# EAGLE library part 349703A (library Doc-Test_Interface)
GP Relays
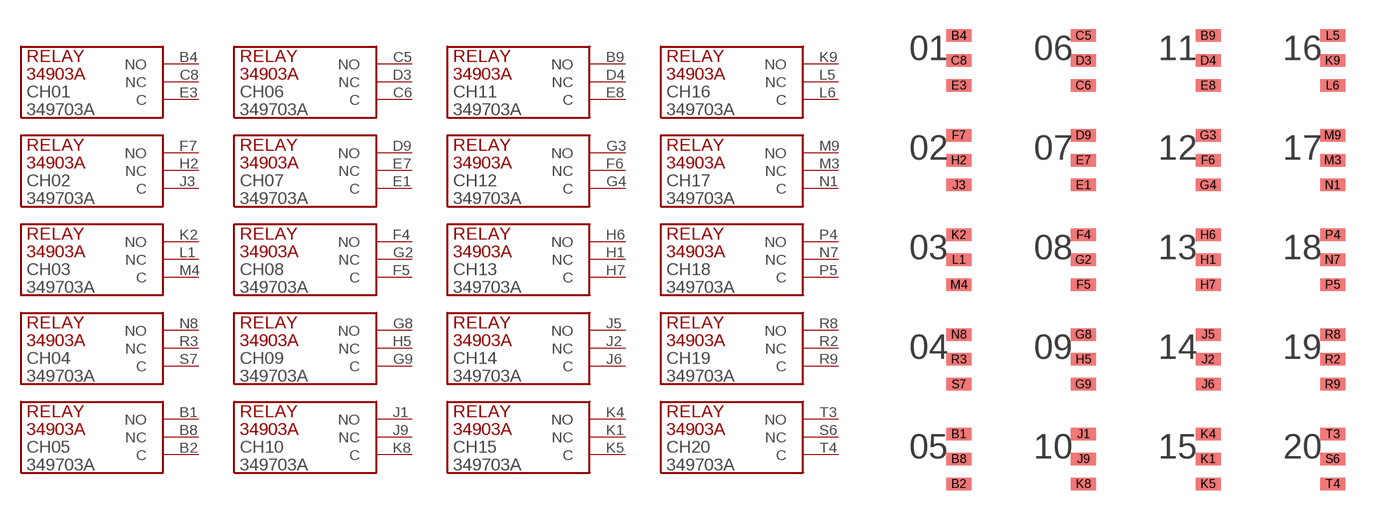
[diagram p1: symbol with the pads of RELAYPAC; footprint RELAYPAC]

Designator prefix CH; gates 01=RELAY 02=RELAY 03=RELAY 04=RELAY 05=RELAY 06=RELAY 07=RELAY 08=RELAY 09=RELAY 10=RELAY 11=RELAY 12=RELAY 13=RELAY 14=RELAY 15=RELAY 16=RELAY 17=RELAY 18=RELAY 19=RELAY 20=RELAY

## 349703A  [RELAYPAC]
B1  05:NO  in
B2  05:C  in
B4  01:NO  in
B8  05:NC  in
B9  11:NO  in
C5  06:NO  in
C6  06:C  in
C8  01:NC  in
D3  06:NC  in
D4  11:NC  in
D9  07:NO  in
E1  07:C  in
E3  01:C  in
E7  07:NC  in
E8  11:C  in
F4  08:NO  in
F5  08:C  in
F6  12:NC  in
F7  02:NO  in
G2  08:NC  in
G3  12:NO  in
G4  12:C  in
G8  09:NO  in
G9  09:C  in
H1  13:NC  in
H2  02:NC  in
H5  09:NC  in
H6  13:NO  in
H7  13:C  in
J1  10:NO  in
J2  14:NC  in
J3  02:C  in
J5  14:NO  in
J6  14:C  in
J9  10:NC  in
K1  15:NC  in
K2  03:NO  in
K4  15:NO  in
K5  15:C  in
K8  10:C  in
K9  16:NO  in
L1  03:NC  in
L5  16:NC  in
L6  16:C  in
M3  17:NC  in
M4  03:C  in
M9  17:NO  in
N1  17:C  in
N7  18:NC  in
N8  04:NO  in
P4  18:NO  in
P5  18:C  in
R2  19:NC  in
R3  04:NC  in
R8  19:NO  in
R9  19:C  in
S6  20:NC  in
S7  04:C  in
T3  20:NO  in
T4  20:C  in

## Footprint RELAYPAC (pad centres in mm)
smd 1.27 x 0.635: B1 -10.16,-6.35; B2 -10.16,-8.89; B4 -10.16,13.97; B8 -10.16,-7.62; B9 2.54,13.97; C5 -3.81,13.97; C6 -3.81,11.43; C8 -10.16,12.7; D3 -3.81,12.7; D4 2.54,12.7; D9 -3.81,8.89; E1 -3.81,6.35; E3 -10.16,11.43; E7 -3.81,7.62; E8 2.54,11.43; F4 -3.81,3.81; F5 -3.81,1.27; F6 2.54,7.62; F7 -10.16,8.89; G2 -3.81,2.54; G3 2.54,8.89; G4 2.54,6.35; G8 -3.81,-1.27; G9 -3.81,-3.81; H1 2.54,2.54; H2 -10.16,7.62; H5 -3.81,-2.54; H6 2.54,3.81; H7 2.54,1.27; J1 -3.81,-6.35; J2 2.54,-2.54; J3 -10.16,6.35; J5 2.54,-1.27; J6 2.54,-3.81; J9 -3.81,-7.62; K1 2.54,-7.62; K2 -10.16,3.81; K4 2.54,-6.35; K5 2.54,-8.89; K8 -3.81,-8.89; K9 8.89,12.7; L1 -10.16,2.54; L5 8.89,13.97; L6 8.89,11.43; M3 8.89,7.62; M4 -10.16,1.27; M9 8.89,8.89; N1 8.89,6.35; N7 8.89,2.54; N8 -10.16,-1.27; P4 8.89,3.81; P5 8.89,1.27; R2 8.89,-2.54; R3 -10.16,-2.54; R8 8.89,-1.27; R9 8.89,-3.81; S6 8.89,-7.62; S7 -10.16,-3.81; T3 8.89,-6.35; T4 8.89,-8.89